# Altium footprint library mdriver2_control.PcbLib: 41 footprints (part 1 of 3)
Each footprint in its own frame and in the unit in brackets; x right, y up, seen from the top. Pads: shape width x height; smd on the part's side, far side on the other; paste and mask are expansions set on the pad; w line width, h text height; cw(c..) or ccw(c..) is an arc to the next point about the centre after c.
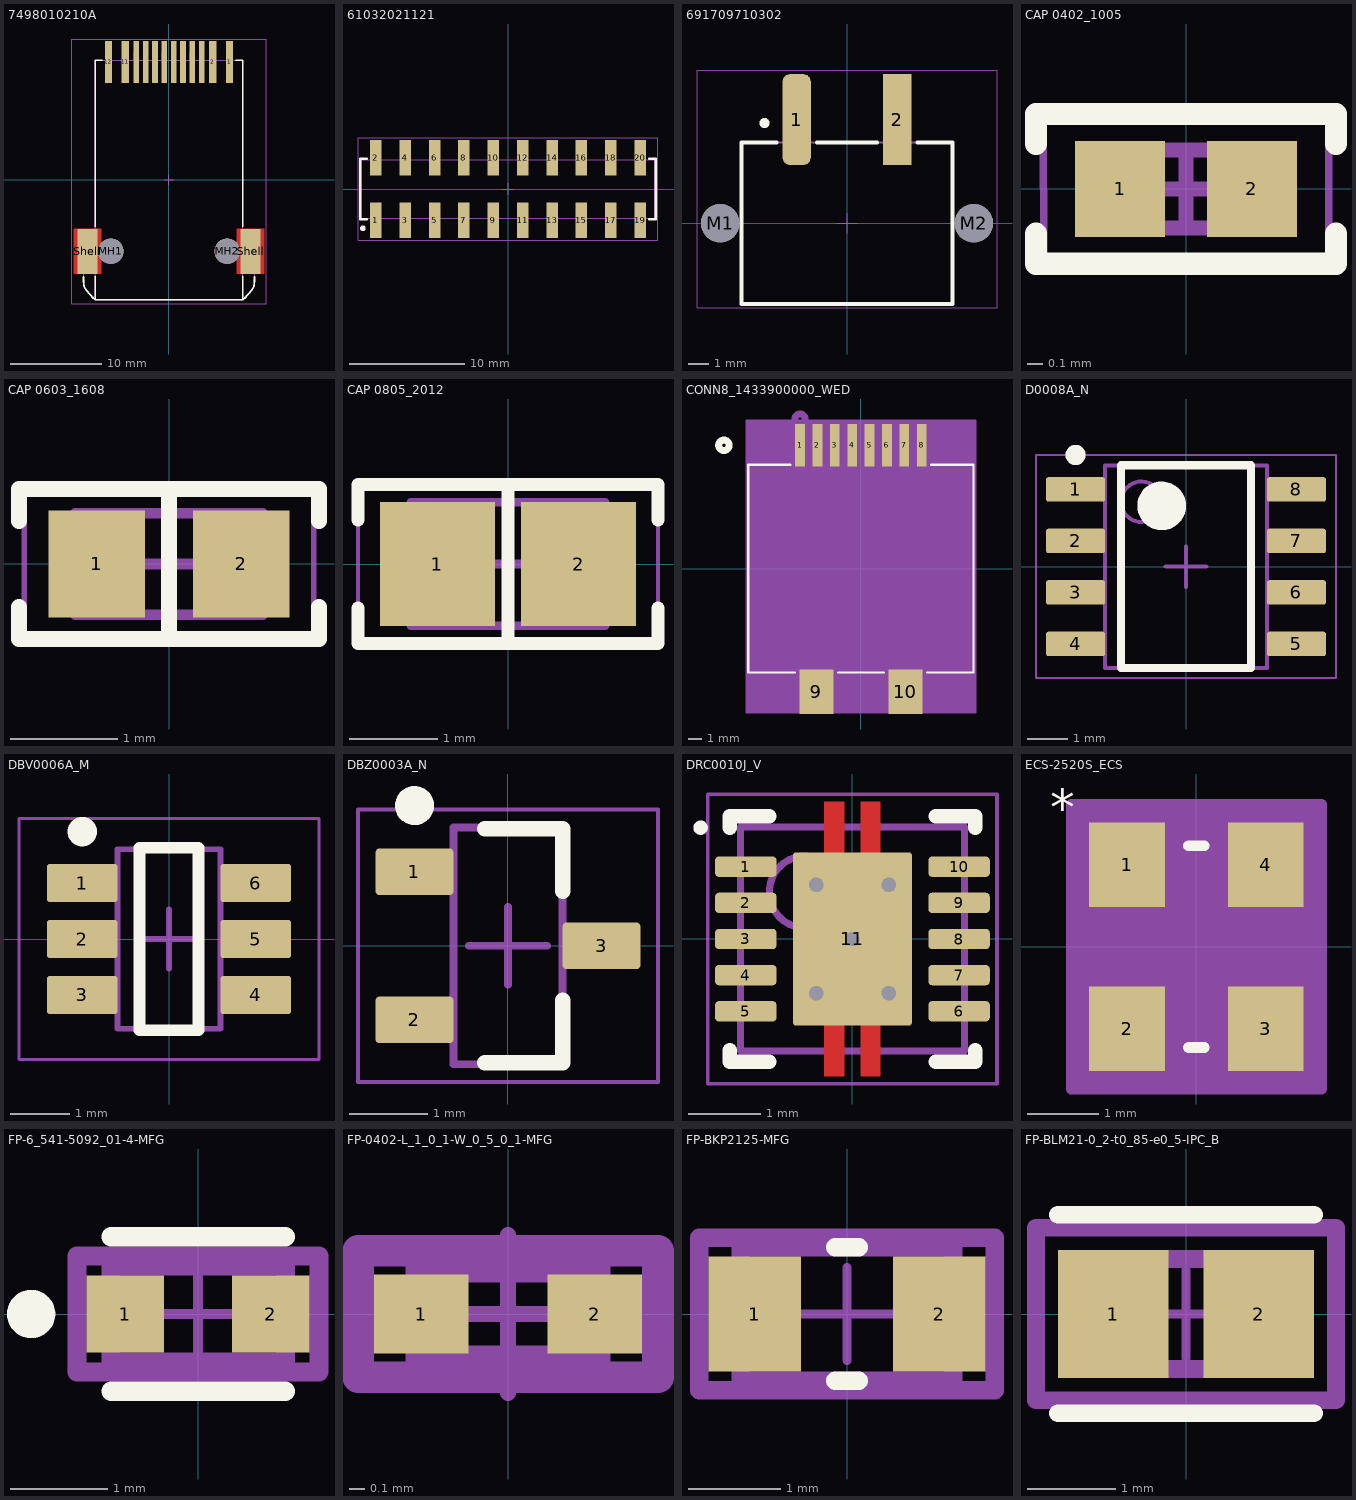
[diagram p0: the footprints below, top view; thin cyan lines are the x and y axes]

## 7498010210A [mm] "LAN Transformer, body 16.1x25.4mm"
height 13.61
pads (16):
  rect 0.81x4.6 smd: 1(6.61,12.895) 2(4.77,12.895) 11(-4.77,12.895) 12(-6.61,12.895)
  rect 0.61x4.6 smd: 3(3.57,12.895) 4(2.55,12.895) 5(1.53,12.895) 6(0.51,12.895) 7(-0.51,12.895) 8(-1.53,12.895) 9(-2.55,12.895) 10(-3.57,12.895)
  round 2.8 hole 2.8 unplated: MH1(-6.35,-7.795) MH2(6.35,-7.795)
  rect 2.2x4.9 smd paste-403.566 mask+0.102: Shell(-8.92,-7.795)
  rect 2.2x4.9 smd paste+0 mask+0.102: Shell(8.92,-7.795)
Top Layer:
  region: 10.42,-10.245 10.42,-5.345 7.42,-5.345 7.42,-6.893 7.42,-6.892 7.495,-6.989 7.618,-7.201 7.702,-7.431 7.745,-7.672 7.745,-7.917 7.702,-8.159 7.618,-8.389 7.495,-8.6 7.42,-8.697 7.42,-10.245
  region: -10.42,-10.245 -10.42,-5.345 -7.42,-5.345 -7.42,-6.893 -7.42,-6.892 -7.495,-6.989 -7.618,-7.201 -7.702,-7.431 -7.745,-7.672 -7.745,-7.917 -7.702,-8.159 -7.618,-8.389 -7.495,-8.6 -7.42,-8.697 -7.42,-10.245
Top Overlay:
  lines w0.2: -9.351,-10.589 ccw(c-2.472,-10.49) -9.325,-11.09 ccw(c-7.272,-11.09) -9.2,-11.795 ccw(c-4.225,-8.48) -8.05,-13.075 ; -8.05,-10.525 -8.05,-13.075 ; -8.05,-5.075 -8.05,13.075 -7.3,13.075 ; 7.3,13.075 8.05,13.075 8.05,-5.075 ; 8.05,-10.525 8.05,-13.075 ; 9.351,-10.589 cw(c2.472,-10.49) 9.325,-11.09 cw(c7.272,-11.09) 9.2,-11.795 cw(c4.225,-8.48) 8.05,-13.075 ; -8.05,-13.075 8.05,-13.075
Top Courtyard:
  lines w0.05: -10.62,-13.525 10.62,-13.525 10.62,15.395 -10.62,15.395 -10.62,-13.525
Top Designator:
  text ".Designator" at -7.498,-0.5 h1.5
Top Component Outline:
  lines w0.1: -9.688,-5.908 cw(c-10.109,-6.494) -9.395,-6.595 -9.351,-10.589 ccw(c-2.472,-10.49) -9.325,-11.09 ccw(c-7.272,-11.09) -9.2,-11.795 ccw(c-4.225,-8.48) -8.05,-13.075 ; -6.835,13.075 -6.835,13.985 -6.385,13.985 -6.385,13.075 ; -4.995,13.075 -4.995,13.985 -4.545,13.985 -4.545,13.075 ; -3.795,13.075 -3.795,13.985 -3.345,13.985 -3.345,13.075 ; -2.775,13.075 -2.775,13.985 -2.325,13.985 -2.325,13.075 ; -1.755,13.075 -1.755,13.985 -1.305,13.985 -1.305,13.075 ; -0.735,13.075 -0.735,13.985 -0.285,13.985 -0.285,13.075 ; 0.285,13.075 0.285,13.985 0.735,13.985 0.735,13.075 ; 1.305,13.075 1.305,13.985 1.755,13.985 1.755,13.075 ; 2.325,13.075 2.325,13.985 2.775,13.985 2.775,13.075 ; 3.345,13.075 3.345,13.985 3.795,13.985 3.795,13.075 ; 4.545,13.075 4.545,13.985 4.995,13.985 4.995,13.075 ; 6.385,13.075 6.385,13.985 6.835,13.985 6.835,13.075 ; 9.688,-5.908 ccw(c10.109,-6.494) 9.395,-6.595 9.351,-10.589 cw(c2.472,-10.49) 9.325,-11.09 cw(c7.272,-11.09) 9.2,-11.795 cw(c4.225,-8.48) 8.05,-13.075 ; -8.05,-13.075 -8.05,13.075 8.05,13.075 8.05,-13.075 ; -8.05,-13.075 8.05,-13.075
Top Component Center:
  lines w0.05: -0.5,0 0.5,0 ; 0,-0.5 0,0.5
3D body "7498010210A.stp": height 15.66, standoff -0.85, extent -9.65,-13.325 9.65,13.985

## 61032021121 [mm] "Pin Header, pitch 2.54 mm, SMD, Vertical, dual row, 20p"
height 9.6
pads (20):
  rect 1x3.1 smd: 1(-11.43,-2.7) 2(-11.43,2.7) 3(-8.89,-2.7) 4(-8.89,2.7) 5(-6.35,-2.7) 6(-6.35,2.7) 7(-3.81,-2.7) 8(-3.81,2.7) 9(-1.27,-2.7) 10(-1.27,2.7) 11(1.27,-2.7) 12(1.27,2.7) 13(3.81,-2.7) 14(3.81,2.7) 15(6.35,-2.7) 16(6.35,2.7) 17(8.89,-2.7) 18(8.89,2.7) 19(11.43,-2.7) 20(11.43,2.7)
Top Overlay:
  circle w0.25: c-12.56,-3.4 r0.125
  lines w0.2: -12.225,-2.615 -12.775,-2.615 -12.775,2.615 -12.225,2.615 ; 12.225,-2.615 12.775,-2.615 12.775,2.615 12.225,2.615
Top Courtyard:
  lines w0.05: -12.975,-4.45 12.975,-4.45 12.975,4.45 -12.975,4.45 -12.975,-4.45
Top Designator:
  text ".Designator" at -7.498,-0.5 h1.5
Top Component Outline:
  lines w0.1: -11.75,-2.54 -11.75,-3.75 -11.11,-3.75 -11.11,-2.54 ; -11.75,2.54 -11.75,3.75 -11.11,3.75 -11.11,2.54 ; -9.21,-2.54 -9.21,-3.75 -8.57,-3.75 -8.57,-2.54 ; -9.21,2.54 -9.21,3.75 -8.57,3.75 -8.57,2.54 ; -6.67,-2.54 -6.67,-3.75 -6.03,-3.75 -6.03,-2.54 ; -6.67,2.54 -6.67,3.75 -6.03,3.75 -6.03,2.54 ; -4.13,-2.54 -4.13,-3.75 -3.49,-3.75 -3.49,-2.54 ; -4.13,2.54 -4.13,3.75 -3.49,3.75 -3.49,2.54 ; -1.59,-2.54 -1.59,-3.75 -0.95,-3.75 -0.95,-2.54 ; -1.59,2.54 -1.59,3.75 -0.95,3.75 -0.95,2.54 ; 0.95,-2.54 0.95,-3.75 1.59,-3.75 1.59,-2.54 ; 0.95,2.54 0.95,3.75 1.59,3.75 1.59,2.54 ; 3.49,-2.54 3.49,-3.75 4.13,-3.75 4.13,-2.54 ; 3.49,2.54 3.49,3.75 4.13,3.75 4.13,2.54 ; 6.03,-2.54 6.03,-3.75 6.67,-3.75 6.67,-2.54 ; 6.03,2.54 6.03,3.75 6.67,3.75 6.67,2.54 ; 8.57,-2.54 8.57,-3.75 9.21,-3.75 9.21,-2.54 ; 8.57,2.54 8.57,3.75 9.21,3.75 9.21,2.54 ; 11.11,-2.54 11.11,-3.75 11.75,-3.75 11.75,-2.54 ; 11.11,2.54 11.11,3.75 11.75,3.75 11.75,2.54 ; -12.7,-2.54 -12.7,2.54 12.7,2.54 12.7,-2.54 -12.7,-2.54
Top Component Center:
  lines w0.05: -0.5,0 0.5,0 ; 0,-0.5 0,0.5
3D body "61032021121.stp": height 9.62, standoff 0.02, extent -12.7,-3.75 12.7,3.75

## 691709710302 [mm] "Horizontal Entry SMT with Pressure Clamp, pitch 5mm, 02p"
height 10.9
pads (4):
  rrect50% 1.4x4.5 smd: 1(-2.5,5.15)
  rect 1.4x4.5 smd: 2(2.5,5.15)
  round 1.9 hole 1.9 unplated: M1(-6.3,0) M2(6.3,0)
Top Overlay:
  circle w0.25: c-4.1,4.975 r0.125
  lines w0.2: -3.5,4 -5.25,4 -5.25,-4 5.25,-4 5.25,4 3.5,4 ; -1.5,4 1.5,4
Top 3D Body:
  lines w0.1: -3,4 -3,7 -2,7 -2,4 ; 2,4 2,7 3,7 3,4 ; -5.25,-4 -5.25,4 5.25,4 5.25,-4 -5.25,-4
Top Courtyard:
  lines w0.05: -7.45,-4.2 7.45,-4.2 7.45,7.6 -7.45,7.6 -7.45,-4.2
Top Designator:
  text ".Designator" at -2.539,-0.169 h0.51
Top Component Outline:
  lines w0.1: -3,4 -3,7 -2,7 -2,4 ; 2,4 2,7 3,7 3,4 ; -5.25,-4 5.25,-4 5.25,4 -5.25,4 -5.25,-4
Top Component Center:
  lines w0.05: -0.5,0 0.5,0 ; 0,-0.5 0,0.5
3D body "691709710302.stp": height 9.95, standoff -1.75, extent -7,-4 7,7

## CAP 0402_1005 [mm] "Chip Capacitor, 2-Leads, Body 1.02x0.51mm, IPC Medium Density"
height 0.52
pads (2):
  rect 0.6x0.64 smd: 1(-0.44,0) 2(0.44,0)
Top Overlay:
  lines w0.15: -1,-0.3 -1,-0.5 1,-0.5 1,-0.3 ; -1,0.3 -1,0.5 1,0.5 1,0.3
Mechanical 13:
  lines w0.1: -0.515,-0.26 -0.515,0.26 0.515,0.26 0.515,-0.26 -0.515,-0.26
Mechanical 15:
  lines w0.05: -0.95,-0.5 -0.95,0.5 0.95,0.5 0.95,-0.5 -0.95,-0.5
  lines w0.1: -0.26,0 0.26,0 ; 0,-0.26 0,0.26
3D body "0402 cap.STEP": height 0.52, standoff 0, extent -0.5,-0.262 0.5,0.262

## CAP 0603_1608 [mm] "Chip Capacitor, 2-Leads, Body 1.60x0.80mm, IPC Medium Density"
height 0.89
pads (2):
  rect 0.9x1 smd: 1(-0.675,0) 2(0.675,0)
Top Overlay:
  lines w0.15: -1.4,-0.4 -1.4,-0.7 1.4,-0.7 1.4,-0.4 ; -1.4,0.4 -1.4,0.7 1.4,0.7 1.4,0.4 ; 0,-0.7 0,0.7
Mechanical 13:
  lines w0.1: -0.875,-0.475 0.875,-0.475 0.875,0.475 -0.875,0.475 -0.875,-0.475
Mechanical 15:
  lines w0.05: -1.35,-0.75 1.35,-0.75 1.35,0.75 -1.35,0.75 -1.35,-0.75
  lines w0.1: -0.475,0 0.475,0 ; 0,-0.475 0,0.475
3D body "0603 cap.STEP": height 0.82, standoff 0, extent -0.8,-0.412 0.8,0.412

## CAP 0805_2012 [mm] "Chip Capacitor, 2-Leads, Body 2.00x1.20mm, IPC Medium Density"
height 1.15
pads (2):
  rect 1.3x1.4 smd: 1(-0.8,0) 2(0.8,0)
Top Overlay:
  lines w0.15: -1.7,-0.5 -1.7,-0.9 1.7,-0.9 1.7,-0.5 ; -1.7,0.5 -1.7,0.9 1.7,0.9 1.7,0.5 ; 0,-0.9 0,0.9
Mechanical 13:
  lines w0.1: -1.1,-0.7 1.1,-0.7 1.1,0.7 -1.1,0.7 -1.1,-0.7
Mechanical 15:
  lines w0.05: -1.7,-0.95 1.7,-0.95 1.7,0.95 -1.7,0.95 -1.7,-0.95
  lines w0.1: -0.5,0 0.5,0 ; 0,-0.5 0,0.5
3D body "0805 cap.STEP": height 1.26, standoff -0.02, extent -1,-0.637 1,0.637

## CONN8_1433900000_WED [mil]
height 535.43
pads (10):
  rect 28x122 smd paste+0 mask+0: 1(-175,354.5) 2(-125,354.5) 3(-75,354.5) 4(-25,354.5) 5(25,354.5) 6(75,354.5) 7(125,354.5) 8(175,354.5)
  rect 98x128 smd paste-64 mask-64: 9(-127.95,-354.16) 10(127.95,-354.16)
Top Overlay:
  circle w20: c-394,354.5 r15
  lines w6: -202.1,298.5 -324,298.5 -324,-298.5 -190.05,-298.5 ; -65.85,-298.5 65.85,-298.5 ; 190.05,-298.5 324,-298.5 324,298.5 202.1,298.5
Bottom Overlay:
  circle w20: c-394,354.5 r15
Mechanical 13:
  circle w20: c-175,429.5 r15
  lines w1: -319,-293.5 -319,293.5 319,293.5 319,-293.5 -319,-293.5
  text "RefDes2" at -87.5,329.5 h50
Mechanical 15:
  region: 329,425.5 -329,425.5 -329,-413.16 329,-413.16
  lines w6: -329,-413.16 329,-413.16 329,425.5 -329,425.5 -329,-413.16
3D body "1433900000.stp": height 529.65, standoff 0.01, extent -313.97,-387.61 319.81,379.82

## D0008A_N [mm] "SOIC, 8-Leads, Body 5x4mm, Pitch 1.27mm, IPC Medium Density"
height 1.75
pads (8):
  rrect17% 1.45x0.6 smd: 1(-2.725,1.905) 2(-2.725,0.635) 3(-2.725,-0.635) 4(-2.725,-1.905) 5(2.725,-1.905) 6(2.725,-0.635) 7(2.725,0.635) 8(2.725,1.905)
Top Overlay:
  circle w0.25: c-2.725,2.755 r0.125
  circle w0.6: c-0.6,1.5 r0.3
  lines w0.2: -1.6,-2.5 -1.6,2.5 1.6,2.5 1.6,-2.5 -1.6,-2.5
Mechanical 1:
  text ".Designator" at -1.397,-0.254 h0.6
Mechanical 13:
  circle w0.1: c-1.1,1.6 r0.5
  lines w0.1: -2,-2.5 -2,2.5 2,2.5 2,-2.5 -2,-2.5
Mechanical 15:
  lines w0.05: -3.7,-2.75 -3.7,2.75 3.7,2.75 3.7,-2.75 -3.7,-2.75
  lines w0.1: -0.5,0 0.5,0 ; 0,-0.5 0,0.5
3D body "SOIC-8akaD0008AakaM08A.stp": height 1.63, standoff 0, extent -3,-2.45 3,2.45

## DBV0006A_M [mm] "SOT23, 6-Leads, Body 3.05x1.75mm, Pitch 0.95mm, IPC Low Density"
height 1.45
pads (6):
  rrect15% 1.2x0.65 smd: 1(-1.475,0.95) 2(-1.475,0) 3(-1.475,-0.95) 4(1.475,-0.95) 5(1.475,0) 6(1.475,0.95)
Top Overlay:
  circle w0.25: c-1.475,1.825 r0.125
  lines w0.2: -0.5,-1.55 -0.5,1.55 0.5,1.55 0.5,-1.55 -0.5,-1.55
Mechanical 1:
  text ".Designator" at -0.635,-0.127 h0.4
Mechanical 13:
  lines w0.1: -0.875,-1.525 0.875,-1.525 0.875,1.525 -0.875,1.525 -0.875,-1.525
Mechanical 15:
  lines w0.05: -2.55,-2.05 2.55,-2.05 2.55,2.05 -2.55,2.05 -2.55,-2.05
  lines w0.1: -0.5,0 0.5,0 ; 0,-0.5 0,0.5
3D body "DBV0006AakaMF06A.stp": height 1.11, standoff -0.01, extent -1.422,-1.461 1.422,1.46

## DBZ0003A_N [mm] "SOT23, 3-Leads, Body 3.04x1.4mm, Pitch 0.95mm, IPC Medium Density"
height 1.12
pads (3):
  rrect17% 1x0.6 smd: 1(-1.2,0.95) 2(-1.2,-0.95) 3(1.2,0)
Top Overlay:
  circle w0.25: c-1.2,1.8 r0.125
  lines w0.2: -0.3,-1.5 0.7,-1.5 0.7,-0.7 ; -0.3,1.5 0.7,1.5 0.7,0.7
Mechanical 1:
  text ".Designator" at -0.508,-0.127 h0.35
Mechanical 13:
  lines w0.1: -0.7,-1.52 0.7,-1.52 0.7,1.52 -0.7,1.52 -0.7,-1.52
Mechanical 15:
  lines w0.05: -1.925,-1.75 1.925,-1.75 1.925,1.75 -1.925,1.75 -1.925,-1.75
  lines w0.1: -0.5,0 0.5,0 ; 0,-0.5 0,0.5
3D body "DBZ0003AakaMF03A.stp": height 0.96, standoff -0.02, extent -1.257,-1.461 1.257,1.46

## DRC0010J_V [mm] "SON, 10-Leads, Body 3x3mm, Pitch 0.5mm, Thermal Pad 2.4x1.65mm, TI Recommended"
height 1
pads (11):
  rrect36% 0.85x0.28 smd paste-0.025 mask+0.07: 1(-1.475,1) 2(-1.475,0.5) 3(-1.475,0) 4(-1.475,-0.5) 5(-1.475,-1) 6(1.475,-1) 7(1.475,-0.5) 8(1.475,0) 9(1.475,0.5) 10(1.475,1)
  rrect6% 1.65x2.4 smd paste-0.825 mask+0.07: 11(0,0)
via 0,0 diameter 0.5 hole 0.2
via 0.5,0.75 diameter 0.5 hole 0.2
via -0.5,0.75 diameter 0.5 hole 0.2
via -0.5,-0.75 diameter 0.5 hole 0.2
via 0.5,-0.75 diameter 0.5 hole 0.2
Top Layer:
  rectangle: -0.39,1.07 -0.11,1.9
  region: 0.39,1.9 0.11,1.9 0.11,1.07 0.39,1.07
  region: 0.39,-1.07 0.11,-1.07 0.11,-1.9 0.39,-1.9
  rectangle: -0.39,-1.9 -0.11,-1.07
Top Overlay:
  circle w0.1: c-2.1,1.54 r0.05
  lines w0.2: -1.7,-1.54 -1.7,-1.7 -1.15,-1.7 ; -1.7,1.54 -1.7,1.7 -1.15,1.7 ; 1.15,-1.7 1.7,-1.7 1.7,-1.54 ; 1.15,1.7 1.7,1.7 1.7,1.54
Top Paste:
  rectangle: -0.79,0.11 -0.11,1.16
  rectangle: -0.38,1.38 -0.12,1.88
  region: 0.38,1.88 0.12,1.88 0.12,1.38 0.38,1.38
  region: 0.38,-1.38 0.12,-1.38 0.12,-1.88 0.38,-1.88
  rectangle: -0.38,-1.88 -0.12,-1.38
  region: 0.79,1.16 0.11,1.16 0.11,0.11 0.79,0.11
  region: 0.79,-0.11 0.11,-0.11 0.11,-1.16 0.79,-1.16
  rectangle: -0.79,-1.16 -0.11,-0.11
Mechanical 1:
  text ".Designator" at -1.397,-1.016 h0.51
Mechanical 13:
  circle w0.1: c-0.65,0.65 r0.5
  lines w0.1: -1.55,-1.55 -1.55,1.55 1.55,1.55 1.55,-1.55 -1.55,-1.55
Mechanical 15:
  lines w0.05: -2,-2 -2,2 2,2 2,-2 -2,-2
3D body: height 1, standoff 0, extent -1.55,-1.55 1.55,1.55

## ECS-2520S_ECS [mil]
height 429.13
pads (4):
  rect 42x47 smd paste+0 mask+0: 1(-38.5,45.5) 2(-38.5,-45.5) 3(38.5,-45.5) 4(38.5,45.5)
Top Overlay:
  lines w6: -4.4,-56 4.4,-56 ; -4.4,56 4.4,56
  text "*" at -81.04,67.54 h20
Mechanical 13:
  lines w1: -41.5,0 -41.5,-20 -41.5,-51 41.5,-51 41.5,-20 41.5,0 ; -41.5,20 -41.5,51 41.5,51 41.5,20 ; -41.5,41 -31.5,51
  text "*" at -39,6 h50
Mechanical 15:
  region: 69.5,-79 -69.5,-79 -69.5,79 69.5,79
  region: 41.5,-51 -41.5,-51 -41.5,51 41.5,51
  lines w6: -69.5,-79 -69.5,79 69.5,79 69.5,-79 -69.5,-79
3D body "ECS-2520S_ECS.step": height 39.02, standoff 0, extent -41.5,-50.98 41.5,50.98

## FP-6_541-5092_01-4-MFG [mm]
height 13.6
pads (2):
  rect 0.8x0.8 smd paste+0 mask+0: 1(-0.75,0) 2(0.75,0)
Top Overlay:
  circle w0.25: c-1.725,0 r0.125
  lines w0.2: -0.9,-0.8 0.9,-0.8 ; -0.9,0.8 0.9,0.8
Top 3D Body:
  lines w0.2: -0.9,-0.5 0.9,-0.5 0.9,0.5 -0.9,0.5 -0.9,-0.5
Top Courtyard:
  lines w0.2: -1.25,-0.6 1.25,-0.6 1.25,0.6 -1.25,0.6 -1.25,-0.6
Top Assembly:
  lines w0.2: -1.25,-0.6 1.25,-0.6 1.25,0.6 -1.25,0.6 -1.25,-0.6
  text ".Designator" at 0,0 h1
Top Component Center:
  lines w0.1: -0.5,0 0.5,0 ; 0,-0.5 0,0.5
3D body "Diode_Vishay_VLMY1300-GS08_eec.STEP": height 0.25, standoff 0, extent -1.25,-0.6 1.25,0.6

## FP-0402-L_1_0_1-W_0_5_0_1-MFG [mm]
height 10.9
pads (2):
  rect 0.6x0.5 smd paste+0 mask+0: 1(-0.55,0) 2(0.55,0)
Top 3D Body:
  lines w0.2: -0.55,-0.3 0.55,-0.3 0.55,0.3 -0.55,0.3 -0.55,-0.3
Top Courtyard:
  lines w0.2: -0.95,-0.4 0.95,-0.4 0.95,0.4 -0.95,0.4 -0.95,-0.4
Top Assembly:
  lines w0.2: -0.95,-0.4 0.95,-0.4 0.95,0.4 -0.95,0.4 -0.95,-0.4
  text ".Designator" at 0,0.188 h1
Top Component Center:
  lines w0.1: -0.5,0 0.5,0 ; 0,-0.5 0,0.5
3D body "Cap_AVX_04025C472KAT2A_eec.STEP": height 0.25, standoff 0, extent -0.95,-0.4 0.95,0.4

## FP-BKP2125-MFG [mm]
height 2.65
pads (2):
  rect 1x1.25 smd paste+0 mask+0: 1(-1,0) 2(1,0)
Top Overlay:
  lines w0.2: -0.125,-0.725 0.125,-0.725 ; -0.125,0.725 0.125,0.725
Top 3D Body:
  lines w0.2: -1.15,-0.725 1.15,-0.725 1.15,0.725 -1.15,0.725 -1.15,-0.725
Top Courtyard:
  lines w0.2: -1.6,-0.825 1.6,-0.825 1.6,0.825 -1.6,0.825 -1.6,-0.825
Top Assembly:
  lines w0.2: -1.6,-0.825 1.6,-0.825 1.6,0.825 -1.6,0.825 -1.6,-0.825
  text ".Designator" at 0.127,0.296 h0.51
Top Component Center:
  lines w0.1: -0.5,0 0.5,0 ; 0,-0.5 0,0.5
3D body "FBead_Taiyo_Yuden_BKP2125HS600-T_eec.STEP": height 0.25, standoff 0, extent -1.6,-0.825 1.6,0.825

## FP-BLM21-0_2-t0_85-e0_5-IPC_B [mm]
pads (2):
  rect 1.255x1.456 smd paste+0 mask+0: 1(-0.826,0) 2(0.826,0)
Top Overlay:
  lines w0.2: -1.453,-1.128 1.453,-1.128 ; -1.453,1.128 1.453,1.128
Top 3D Body:
  lines w0.2: -1,-0.625 1,-0.625 1,0.625 -1,0.625 -1,-0.625
Top Courtyard:
  lines w0.2: -1.703,-0.978 1.703,-0.978 1.703,0.978 -1.703,0.978 -1.703,-0.978
Top Assembly:
  lines w0.2: -1.703,-0.978 1.703,-0.978 1.703,0.978 -1.703,0.978 -1.703,-0.978
  text ".Designator" at 0,0.188 h1
Top Component Center:
  lines w0.1: -0.5,0 0.5,0 ; 0,-0.5 0,0.5
3D body "FBead_Murata_BLM21AG102SN1D_eec.STEP": height 0.25, standoff 0, extent -1.703,-0.978 1.703,0.978